# Altium schematic symbol library LM358.SchLib: 1 symbol
Pins are listed as number, name and electrical type; pins without a type are passive.

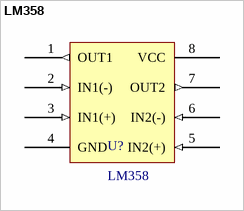
[diagram p0: symbol LM358]

## LM358
designator U?
footprint LM358
pins: 1 OUT1 (out), 2 IN1(-) (in), 3 IN1(+) (in), 4 GND, 5 IN2(+) (in), 6 IN2(-) (in), 7 OUT2 (out), 8 VCC